# EAGLE library part XC2C256_VQ100 (library xilinx)
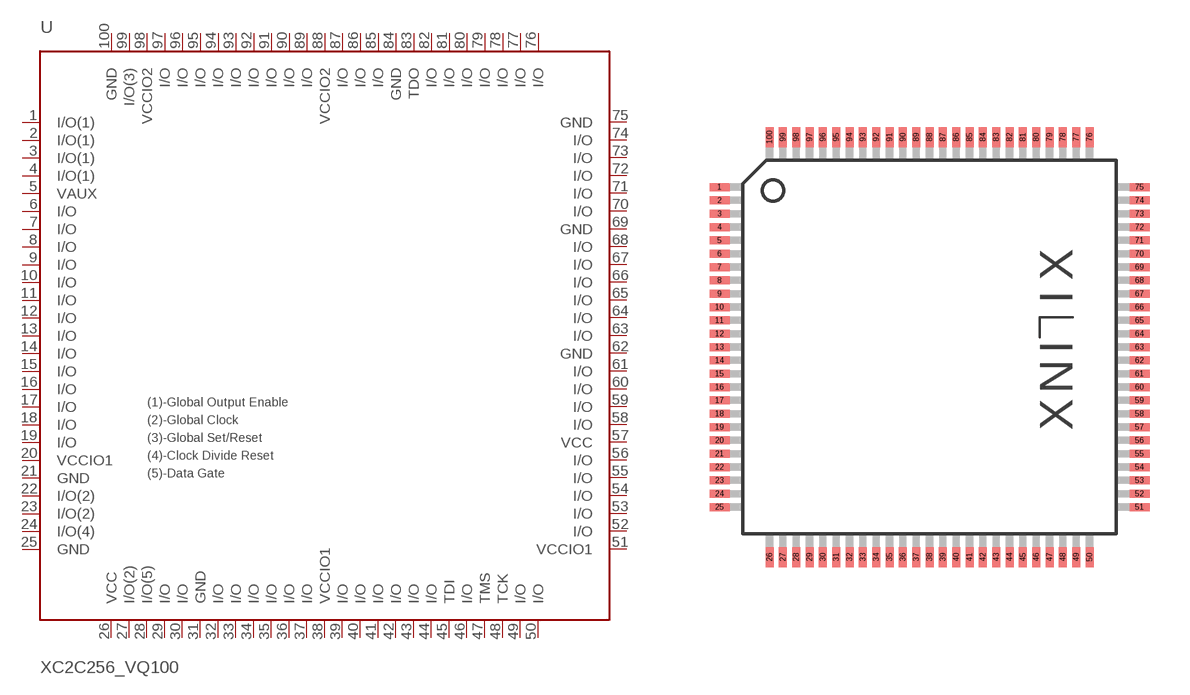
[diagram p3: symbol with the pads of VQ100; footprint VQ100]

Designator prefix -

## XC2C256_VQ100  [VQ100]
1  I/O(1)
2  I/O(1)
3  I/O(1)
4  I/O(1)
5  VAUX
6  I/O
7  I/O
8  I/O
9  I/O
10  I/O
11  I/O
12  I/O
13  I/O
14  I/O
15  I/O
16  I/O
17  I/O
18  I/O
19  I/O
20  VCCIO1
21  GND
22  I/O(2)
23  I/O(2)
24  I/O(4)
25  GND
26  VCC
27  I/O(2)
28  I/O(5)
29  I/O
30  I/O
31  GND
32  I/O
33  I/O
34  I/O
35  I/O
36  I/O
37  I/O
38  VCCIO1
39  I/O
40  I/O
41  I/O
42  I/O
43  I/O
44  I/O
45  TDI
46  I/O
47  TMS
48  TCK
49  I/O
50  I/O
51  VCCIO1
52  I/O
53  I/O
54  I/O
55  I/O
56  I/O
57  VCC
58  I/O
59  I/O
60  I/O
61  I/O
62  GND
63  I/O
64  I/O
65  I/O
66  I/O
67  I/O
68  I/O
69  GND
70  I/O
71  I/O
72  I/O
73  I/O
74  I/O
75  GND
76  I/O
77  I/O
78  I/O
79  I/O
80  I/O
81  I/O
82  I/O
83  TDO
84  GND
85  I/O
86  I/O
87  I/O
88  VCCIO2
89  I/O
90  I/O
91  I/O
92  I/O
93  I/O
94  I/O
95  I/O
96  I/O
97  I/O
98  VCCIO2
99  I/O(3)
100  GND

## Footprint VQ100 (pad centres in mm)
VQ100 Auto generated by make-symbol-device-package-bsdl.ulp Rev. 19
smd 0.75 x 0.3: 1 -7.875,6; 2 -7.875,5.5; 3 -7.875,5; 4 -7.875,4.5; 5 -7.875,4; 6 -7.875,3.5; 7 -7.875,3; 8 -7.875,2.5; 9 -7.875,2; 10 -7.875,1.5; 11 -7.875,1; 12 -7.875,0.5; 13 -7.875,0; 14 -7.875,-0.5; 15 -7.875,-1; 16 -7.875,-1.5; 17 -7.875,-2; 18 -7.875,-2.5; 19 -7.875,-3; 20 -7.875,-3.5; 21 -7.875,-4; 22 -7.875,-4.5; 23 -7.875,-5; 24 -7.875,-5.5; 25 -7.875,-6; 51 7.875,-6; 52 7.875,-5.5; 53 7.875,-5; 54 7.875,-4.5; 55 7.875,-4; 56 7.875,-3.5; 57 7.875,-3; 58 7.875,-2.5; 59 7.875,-2; 60 7.875,-1.5; 61 7.875,-1; 62 7.875,-0.5; 63 7.875,0; 64 7.875,0.5; 65 7.875,1; 66 7.875,1.5; 67 7.875,2; 68 7.875,2.5; 69 7.875,3; 70 7.875,3.5; 71 7.875,4; 72 7.875,4.5; 73 7.875,5; 74 7.875,5.5; 75 7.875,6
smd 0.3 x 0.75: 26 -6,-7.875; 27 -5.5,-7.875; 28 -5,-7.875; 29 -4.5,-7.875; 30 -4,-7.875; 31 -3.5,-7.875; 32 -3,-7.875; 33 -2.5,-7.875; 34 -2,-7.875; 35 -1.5,-7.875; 36 -1,-7.875; 37 -0.5,-7.875; 38 0,-7.875; 39 0.5,-7.875; 40 1,-7.875; 41 1.5,-7.875; 42 2,-7.875; 43 2.5,-7.875; 44 3,-7.875; 45 3.5,-7.875; 46 4,-7.875; 47 4.5,-7.875; 48 5,-7.875; 49 5.5,-7.875; 50 6,-7.875; 76 6,7.875; 77 5.5,7.875; 78 5,7.875; 79 4.5,7.875; 80 4,7.875; 81 3.5,7.875; 82 3,7.875; 83 2.5,7.875; 84 2,7.875; 85 1.5,7.875; 86 1,7.875; 87 0.5,7.875; 88 0,7.875; 89 -0.5,7.875; 90 -1,7.875; 91 -1.5,7.875; 92 -2,7.875; 93 -2.5,7.875; 94 -3,7.875; 95 -3.5,7.875; 96 -4,7.875; 97 -4.5,7.875; 98 -5,7.875; 99 -5.5,7.875; 100 -6,7.875